# Altium schematic symbol library Connectors.SchLib: 89 symbols
Pins are listed as number, name and electrical type; pins without a type are passive.

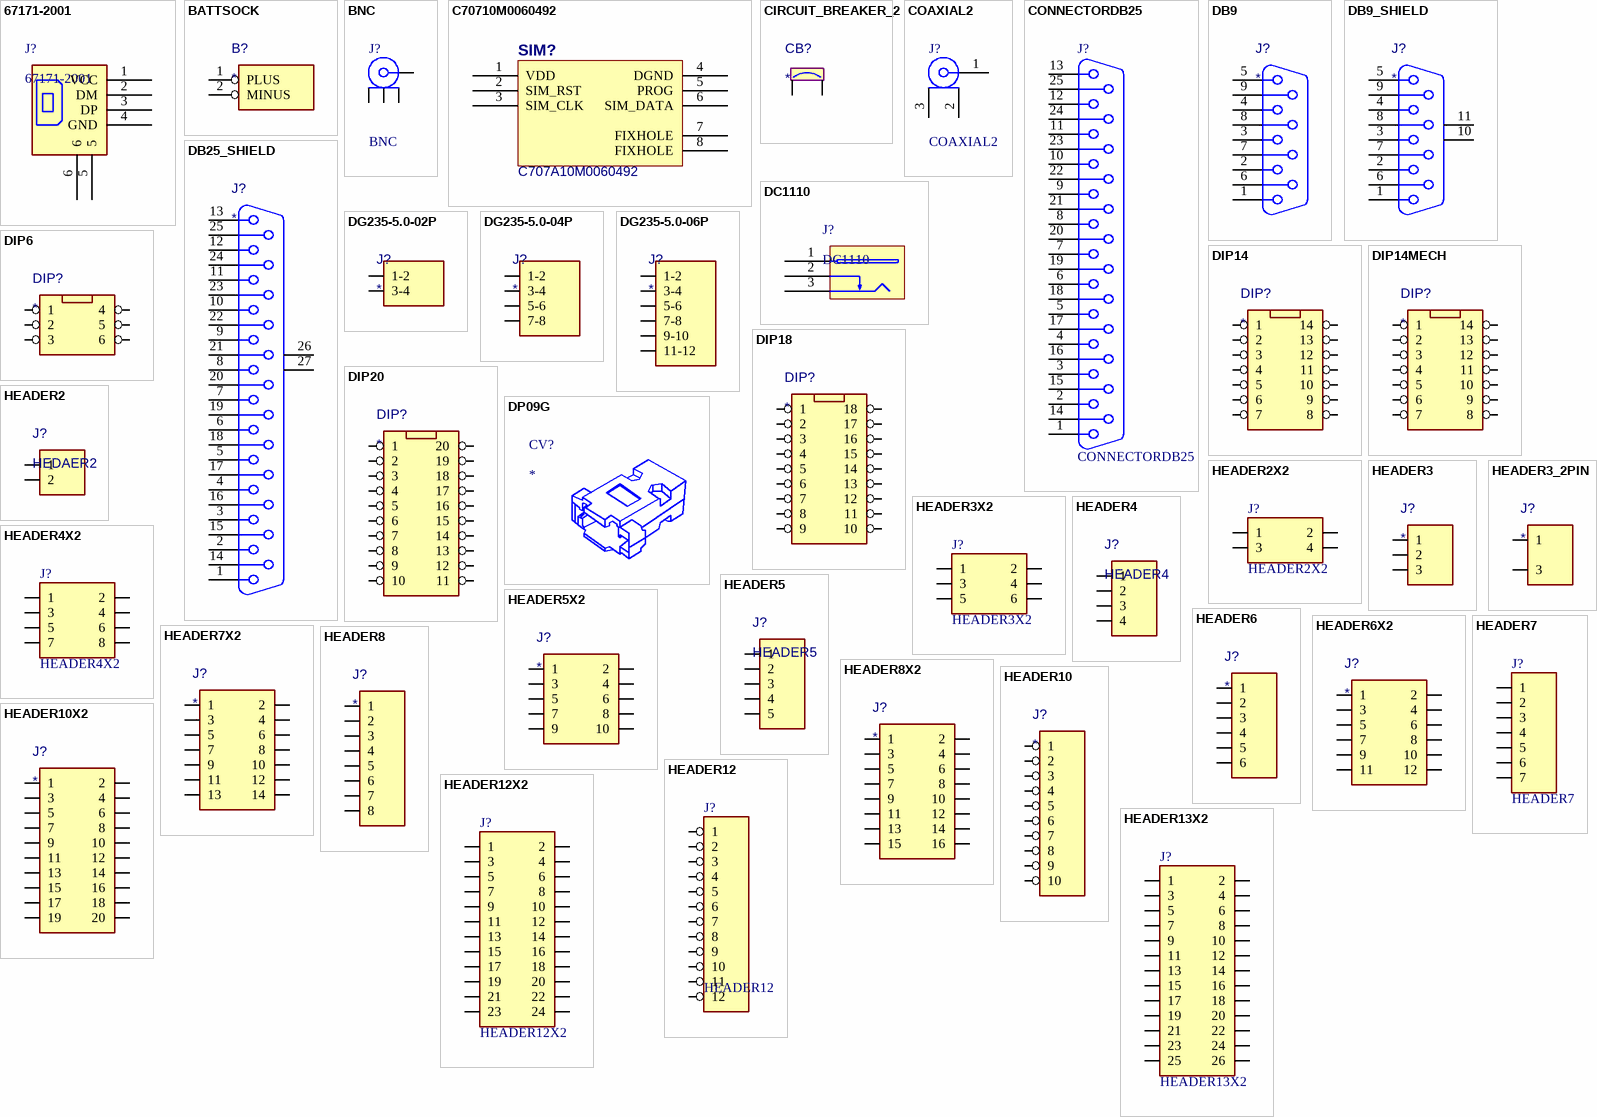
[diagram p0: symbols 67171-2001 to HEADER13X2]

## 67171-2001
designator J?
Value: 67171-2001
pins: 1 VCC, 2 DM, 3 DP, 4 GND, 5, 6

## BATTSOCK
designator B?
Value: *
pins: 1 PLUS, 2 MINUS

## BNC
designator J?
Value: BNC
pins: 1, 2, 3, 4

## C70710M0060492
designator SIM?, comment C707A10M0060492
Value: C707A10M0060492
pins: 1 VDD, 2 SIM_RST, 3 SIM_CLK, 4 DGND, 5 PROG, 6 SIM_DATA, 7 FIXHOLE, 8 FIXHOLE

## CIRCUIT_BREAKER_2
designator CB?
Value: *
pins: 1, 2

## COAXIAL2
designator J?
Value: COAXIAL2
pins: 1, 2, 3

## CONNECTORDB25
designator J?
Value: CONNECTORDB25
pins: 1, 2, 3, 4, 5, 6, 7, 8, 9, 10, 11, 12, 13, 14, 15, 16, 17, 18, 19, 20, 21, 22, 23, 24, 25

## DB9
designator J?
Value: *
pins: 1, 2, 3, 4, 5, 6, 7, 8, 9

## DB9_SHIELD
designator J?
Value: *
pins: 1, 2, 3, 4, 5, 6, 7, 8, 9, 10, 11

## DB25_SHIELD
designator J?
Value: *
pins: 1, 2, 3, 4, 5, 6, 7, 8, 9, 10, 11, 12, 13, 14, 15, 16, 17, 18, 19, 20, 21, 22, 23, 24, 25, 26, 27

## DC1110
designator J?
Value: DC1110
pins: 1, 2, 3

## DG235-5.0-02P
designator J?
Value: *
pins: 1 1-2, 2, 3 3-4, 4

## DG235-5.0-04P
designator J?
Value: *
pins: 1 1-2, 2, 3 3-4, 4, 5 5-6, 6, 7 7-8, 8

## DG235-5.0-06P
designator J?
Value: *
pins: 1 1-2, 2, 3 3-4, 4, 5 5-6, 6, 7 7-8, 8, 9 9-10, 10, 11 11-12, 12

## DIP6
designator DIP?
Value: *
pins: 1, 2, 3, 4, 5, 6

## DIP14
designator DIP?
Value: *
pins: 1, 2, 3, 4, 5, 6, 7, 8, 9, 10, 11, 12, 13, 14

## DIP14MECH
designator DIP?  (mechanical)
Value: *
pins: 1, 2, 3, 4, 5, 6, 7, 8, 9, 10, 11, 12, 13, 14

## DIP18
designator DIP?
Value: *
pins: 1, 2, 3, 4, 5, 6, 7, 8, 9, 10, 11, 12, 13, 14, 15, 16, 17, 18

## DIP20
designator DIP?
Value: *
pins: 1, 2, 3, 4, 5, 6, 7, 8, 9, 10, 11, 12, 13, 14, 15, 16, 17, 18, 19, 20

## DP09G
designator CV?
Value: DP09G

## HEADER2
designator J?, comment HEDAER2
Value: HEDAER2
pins: 1, 2

## HEADER2X2
designator J?
Value: HEADER2X2
pins: 1, 2, 3, 4

## HEADER3
designator J?
Value: *
pins: 1, 2, 3

## HEADER3_2PIN
designator J?
Value: *
pins: 1, 3

## HEADER3X2
designator J?
Value: HEADER3X2
pins: 1, 2, 3, 4, 5, 6

## HEADER4
designator J?
Value: HEADER4
pins: 1, 2, 3, 4

## HEADER4X2
designator J?
Value: HEADER4X2
pins: 1, 2, 3, 4, 5, 6, 7, 8

## HEADER5
designator J?
Value: HEADER5
pins: 1, 2, 3, 4, 5

## HEADER5X2
designator J?
Value: *
pins: 1, 2, 3, 4, 5, 6, 7, 8, 9, 10

## HEADER6
designator J?
Value: *
pins: 1, 2, 3, 4, 5, 6

## HEADER6X2
designator J?
Value: *
pins: 1, 2, 3, 4, 5, 6, 7, 8, 9, 10, 11, 12

## HEADER7
designator J?
Value: HEADER7
pins: 1, 2, 3, 4, 5, 6, 7

## HEADER7X2
designator J?
Value: *
pins: 1, 2, 3, 4, 5, 6, 7, 8, 9, 10, 11, 12, 13, 14

## HEADER8
designator J?
Value: *
pins: 1, 2, 3, 4, 5, 6, 7, 8

## HEADER8X2
designator J?
Value: *
pins: 1, 2, 3, 4, 5, 6, 7, 8, 9, 10, 11, 12, 13, 14, 15, 16

## HEADER10
designator J?
Value: *
pins: 1, 2, 3, 4, 5, 6, 7, 8, 9, 10

## HEADER10X2
designator J?
Value: *
pins: 1, 2, 3, 4, 5, 6, 7, 8, 9, 10, 11, 12, 13, 14, 15, 16, 17, 18, 19, 20

## HEADER12
designator J?
Value: HEADER12
pins: 1, 2, 3, 4, 5, 6, 7, 8, 9, 10, 11, 12

## HEADER12X2
designator J?
Value: HEADER12X2
pins: 1, 2, 3, 4, 5, 6, 7, 8, 9, 10, 11, 12, 13, 14, 15, 16, 17, 18, 19, 20, 21, 22, 23, 24

## HEADER13X2
designator J?
Value: HEADER13X2
pins: 1, 2, 3, 4, 5, 6, 7, 8, 9, 10, 11, 12, 13, 14, 15, 16, 17, 18, 19, 20, 21, 22, 23, 24, 25, 26

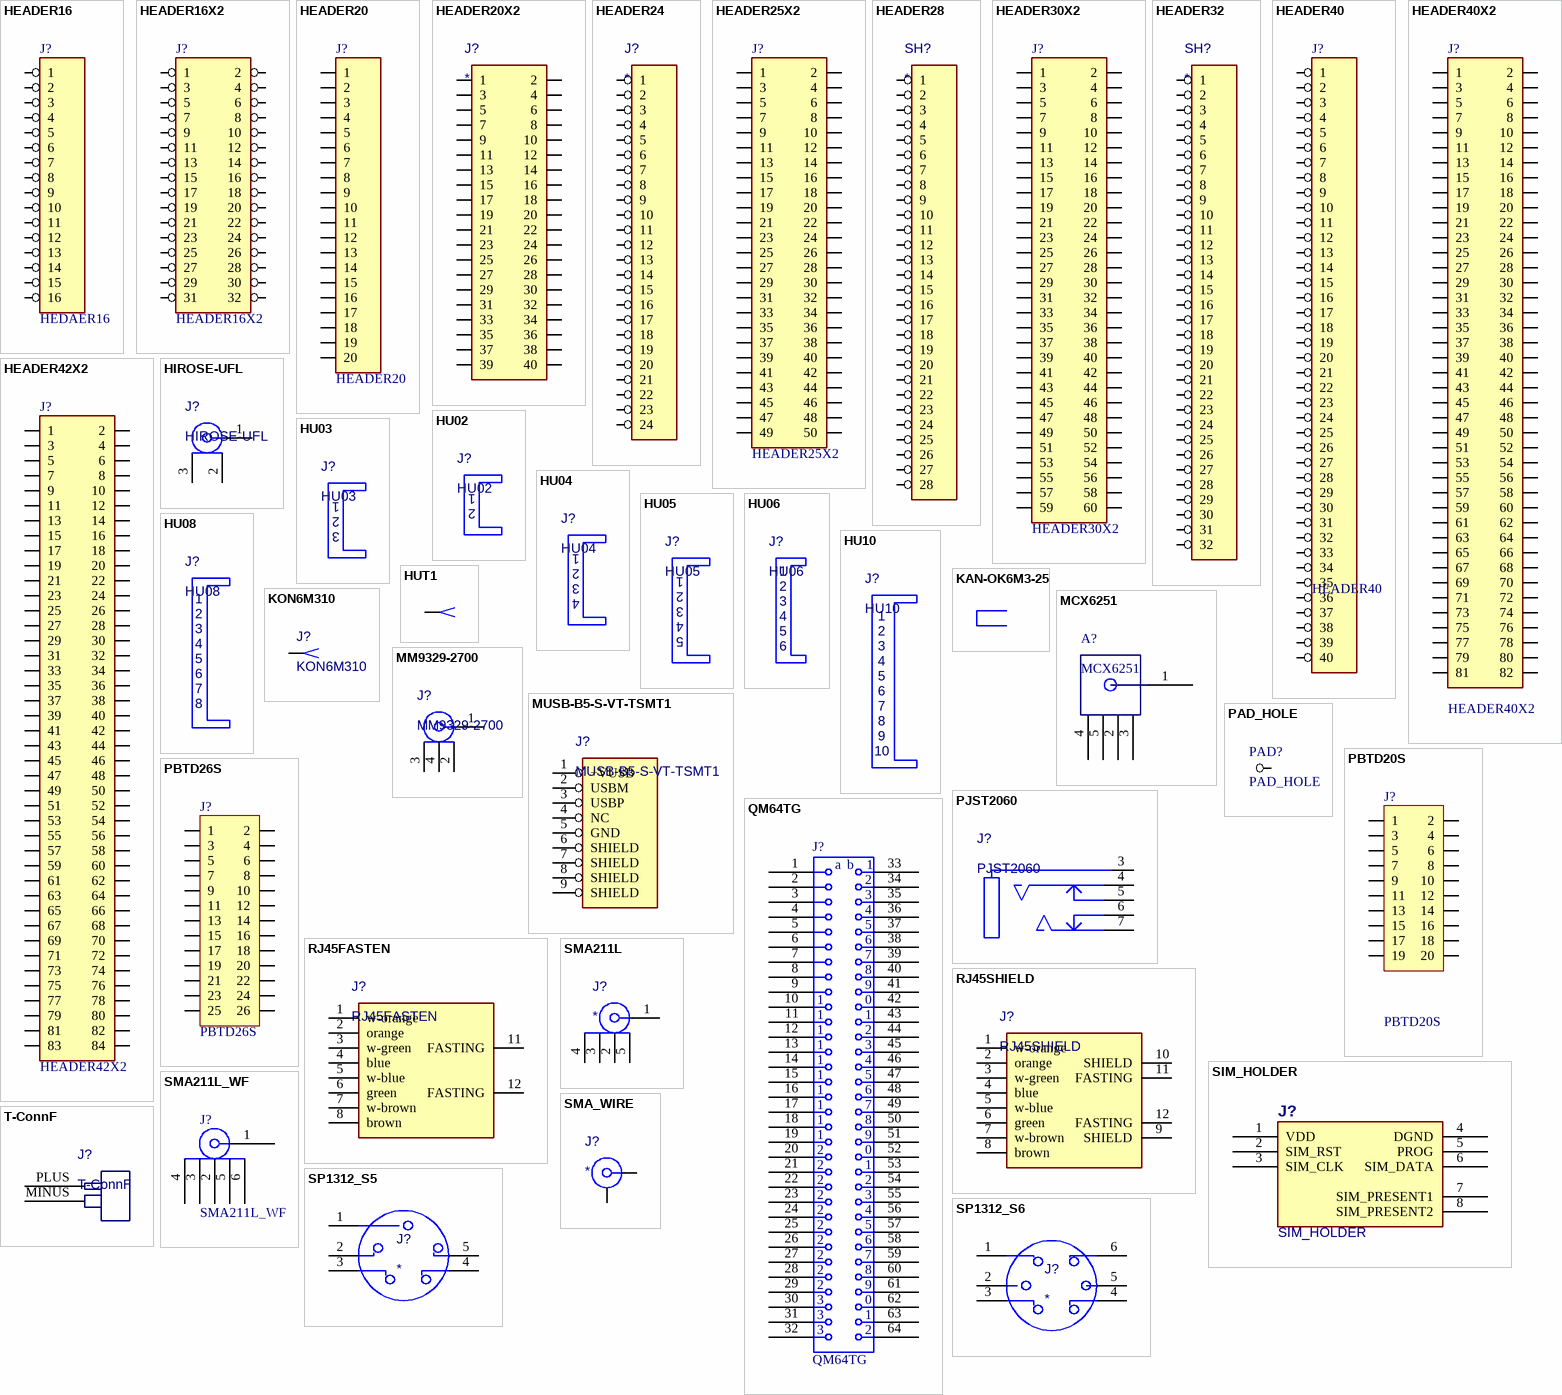
[diagram p1: symbols HEADER16 to T-ConnF]

## HEADER16
designator J?, comment HEDAER16
Value: HEDAER16
pins: 1, 2, 3, 4, 5, 6, 7, 8, 9, 10, 11, 12, 13, 14, 15, 16

## HEADER16X2
designator J?
Value: HEADER16X2
pins: 1, 2, 3, 4, 5, 6, 7, 8, 9, 10, 11, 12, 13, 14, 15, 16, 17, 18, 19, 20, 21, 22, 23, 24, 25, 26, 27, 28, 29, 30, 31, 32

## HEADER20
designator J?
Value: HEADER20
pins: 1, 2, 3, 4, 5, 6, 7, 8, 9, 10, 11, 12, 13, 14, 15, 16, 17, 18, 19, 20

## HEADER20X2
designator J?
Value: *
pins: 1, 2, 3, 4, 5, 6, 7, 8, 9, 10, 11, 12, 13, 14, 15, 16, 17, 18, 19, 20, 21, 22, 23, 24, 25, 26, 27, 28, 29, 30, 31, 32, 33, 34, 35, 36, 37, 38, 39, 40

## HEADER24
designator J?
Value: *
pins: 1, 2, 3, 4, 5, 6, 7, 8, 9, 10, 11, 12, 13, 14, 15, 16, 17, 18, 19, 20, 21, 22, 23, 24

## HEADER25X2
designator J?
Value: HEADER25X2
pins: 1, 2, 3, 4, 5, 6, 7, 8, 9, 10, 11, 12, 13, 14, 15, 16, 17, 18, 19, 20, 21, 22, 23, 24, 25, 26, 27, 28, 29, 30, 31, 32, 33, 34, 35, 36, 37, 38, 39, 40, 41, 42, 43, 44, 45, 46, 47, 48, 49, 50

## HEADER28
designator SH?
Value: *
pins: 1, 2, 3, 4, 5, 6, 7, 8, 9, 10, 11, 12, 13, 14, 15, 16, 17, 18, 19, 20, 21, 22, 23, 24, 25, 26, 27, 28

## HEADER30X2
designator J?
Value: HEADER30X2
pins: 1, 2, 3, 4, 5, 6, 7, 8, 9, 10, 11, 12, 13, 14, 15, 16, 17, 18, 19, 20, 21, 22, 23, 24, 25, 26, 27, 28, 29, 30, 31, 32, 33, 34, 35, 36, 37, 38, 39, 40, 41, 42, 43, 44, 45, 46, 47, 48, 49, 50, 51, 52, 53, 54, 55, 56, 57, 58, 59, 60

## HEADER32
designator SH?
Value: *
pins: 1, 2, 3, 4, 5, 6, 7, 8, 9, 10, 11, 12, 13, 14, 15, 16, 17, 18, 19, 20, 21, 22, 23, 24, 25, 26, 27, 28, 29, 30, 31, 32

## HEADER40
designator J?
Value: HEADER40
pins: 1, 2, 3, 4, 5, 6, 7, 8, 9, 10, 11, 12, 13, 14, 15, 16, 17, 18, 19, 20, 21, 22, 23, 24, 25, 26, 27, 28, 29, 30, 31, 32, 33, 34, 35, 36, 37, 38, 39, 40

## HEADER40X2
designator J?
Value: HEADER40X2
pins: 1, 2, 3, 4, 5, 6, 7, 8, 9, 10, 11, 12, 13, 14, 15, 16, 17, 18, 19, 20, 21, 22, 23, 24, 25, 26, 27, 28, 29, 30, 31, 32, 33, 34, 35, 36, 37, 38, 39, 40, 41, 42, 43, 44, 45, 46, 47, 48, 49, 50, 51, 52, 53, 54, 55, 56, 57, 58, 59, 60, 61, 62, 63, 64, 65, 66, 67, 68, 69, 70, 71, 72, 73, 74, 75, 76, 77, 78, 79, 80, 81, 82

## HEADER42X2
designator J?
Value: HEADER42X2
pins: 1, 2, 3, 4, 5, 6, 7, 8, 9, 10, 11, 12, 13, 14, 15, 16, 17, 18, 19, 20, 21, 22, 23, 24, 25, 26, 27, 28, 29, 30, 31, 32, 33, 34, 35, 36, 37, 38, 39, 40, 41, 42, 43, 44, 45, 46, 47, 48, 49, 50, 51, 52, 53, 54, 55, 56, 57, 58, 59, 60, 61, 62, 63, 64, 65, 66, 67, 68, 69, 70, 71, 72, 73, 74, 75, 76, 77, 78, 79, 80, 81, 82, 83, 84

## HIROSE-UFL
designator J?
Value: HIROSE-UFL
pins: 1, 2, 3

## HU02
designator J?  (mechanical)
Value: HU02
text: 1; 2

## HU03
designator J?  (mechanical)
Value: HU03
text: 1; 2; 3

## HU04
designator J?  (mechanical)
Value: HU04
text: 1; 2; 3; 4

## HU05
designator J?  (mechanical)
Value: HU05
text: 1; 2; 3; 4; 5

## HU06
designator J?  (mechanical)
Value: HU06
text: 1; 2; 3; 4; 5; 6

## HU08
designator J?  (mechanical)
Value: HU08
text: 1; 2; 3; 4; 5; 6; 7; 8

## HU10
designator J?  (mechanical)
Value: HU10
text: 1; 2; 3; 4; 5; 6; 7; 8; 9; 10

## HUT1
designator H?  (value not drawn)  (mechanical)
Value: HUT1
pins: 1

## KAN-OK6M3-25
designator IS?  (value not drawn)
Value: KAN-OK6M3-25

## KON6M310
designator J?
Value: KON6M310
pins: 1

## MCX6251
designator A?
Value: MCX6251
pins: 1, 2, 3, 4, 5

## MM9329-2700
designator J?
Value: MM9329-2700
pins: 1, 2, 3, 4

## MUSB-B5-S-VT-TSMT1
designator J?
Value: MUSB-B5-S-VT-TSMT1
pins: 1 +VUSB, 2 USBM, 3 USBP, 4 NC, 5 GND, 6 SHIELD, 7 SHIELD, 8 SHIELD, 9 SHIELD

## PAD_HOLE
designator PAD?
Value: PAD_HOLE
pins: 1

## PBTD20S
designator J?
Value: PBTD20S
pins: 1, 2, 3, 4, 5, 6, 7, 8, 9, 10, 11, 12, 13, 14, 15, 16, 17, 18, 19, 20

## PBTD26S
designator J?
Value: PBTD26S
pins: 1, 2, 3, 4, 5, 6, 7, 8, 9, 10, 11, 12, 13, 14, 15, 16, 17, 18, 19, 20, 21, 22, 23, 24, 25, 26

## PJST2060
designator J?
Value: PJST2060
pins: 3, 4, 5, 6, 7

## QM64TG
designator J?
Value: QM64TG
footprint 811064
footprint QM64TG
pins: 1, 2, 3, 4, 5, 6, 7, 8, 9, 10, 11, 12, 13, 14, 15, 16, 17, 18, 19, 20, 21, 22, 23, 24, 25, 26, 27, 28, 29, 30, 31, 32, 33, 34, 35, 36, 37, 38, 39, 40, 41, 42, 43, 44, 45, 46, 47, 48, 49, 50, 51, 52, 53, 54, 55, 56, 57, 58, 59, 60, 61, 62, 63, 64
text: a; b; 0

## RJ45FASTEN
designator J?
Value: RJ45FASTEN
pins: 1 w-orange, 2 orange, 3 w-green, 4 blue, 5 w-blue, 6 green, 7 w-brown, 8 brown, 11 FASTING, 12 FASTING

## RJ45SHIELD
designator J?
Value: RJ45SHIELD
pins: 1 w-orange, 2 orange, 3 w-green, 4 blue, 5 w-blue, 6 green, 7 w-brown, 8 brown, 9 SHIELD, 10 SHIELD, 11 FASTING, 12 FASTING

## SIM_HOLDER
designator J?
pins: 1 VDD, 2 SIM_RST, 3 SIM_CLK, 4 DGND, 5 PROG, 6 SIM_DATA, 7 SIM_PRESENT1, 8 SIM_PRESENT2

## SMA211L
designator J?
Value: *
pins: 1, 2, 3, 4, 5

## SMA211L_WF
designator J?
Value: SMA211L_WF
pins: 1, 2, 3, 4, 5, 6

## SMA_WIRE
designator J?
Value: *
pins: 1, 2

## SP1312_S5
designator J?
Value: *
pins: 1, 2, 3, 4, 5

## SP1312_S6
designator J?
Value: *
pins: 1, 2, 3, 4, 5, 6

## T-ConnF
designator J?
Value: T-ConnF
pins: MINUS, PLUS

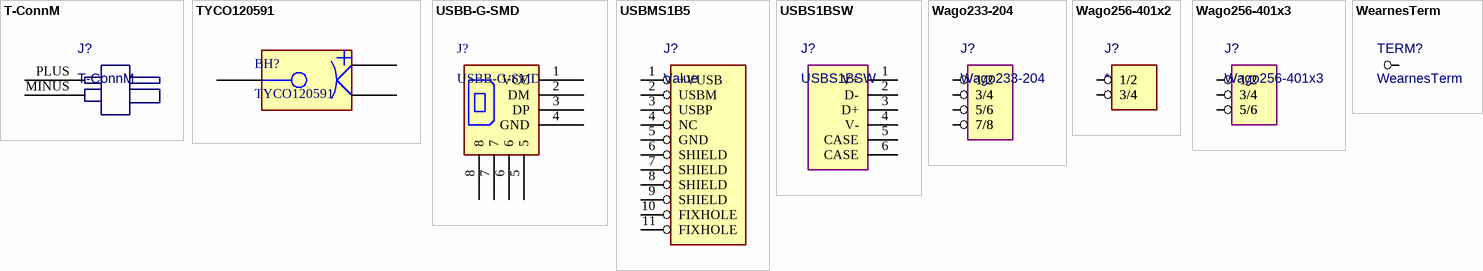
[diagram p2: symbols T-ConnM to WearnesTerm]

## T-ConnM
designator J?
Value: T-ConnM
pins: MINUS, PLUS

## TYCO120591
designator BH?
Value: TYCO120591
footprint TYCO120591 (Footprint not found)
pins: 1, 2, 3

## USBB-G-SMD
designator J?
Value: USBB-G-SMD
pins: 1 VCC, 2 DM, 3 DP, 4 GND, 5, 6, 7, 8

## USBMS1B5
designator J?, comment Value
Value: Value
pins: 1 +VUSB, 2 USBM, 3 USBP, 4 NC, 5 GND, 6 SHIELD, 7 SHIELD, 8 SHIELD, 9 SHIELD, 10 FIXHOLE, 11 FIXHOLE

## USBS1BSW
designator J?
Value: USBS1BSW
pins: 1 V+, 2 D-, 3 D+, 4 V-, 5 CASE, 6 CASE

## Wago233-204
designator J?
Value: Wago233-204
pins: 1 1/2, 2 1/2, 3 3/4, 4 3/4, 5 5/6, 6 5/6, 7 7/8, 8 7/8

## Wago256-401x2
designator J?
Value: *
pins: 1 1/2, 2 1/2, 3 3/4, 4 3/4

## Wago256-401x3
designator J?
Value: Wago256-401x3
pins: 1 1/2, 2 1/2, 3 3/4, 4 3/4, 5 5/6, 6 5/6

## WearnesTerm
designator TERM?  (mechanical)
Value: WearnesTerm
pins: 1